# Altium schematic symbol library cygnus_schlib.SchLib: 2 symbols
Pins are listed as number, name and electrical type; pins without a type are passive.

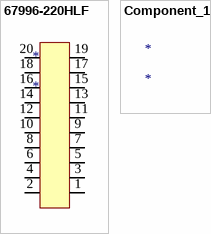
[diagram p0: symbols 67996-220HLF to Component_1]

## 67996-220HLF
designator *
Conn Unshrouded Header HDR 20 POS 2.54mm Solder ST Top Entry Thru-Hole BergStik® Bulk; Manufacturer: Amphenol ICC / FCI; Manufacturer Part Number: 67996-220HLF; Supplier: Digikey; Supplier Part Number: 609-3214-ND; RoHS: No; Category: Headers and Wire Housings; Stock: 2574; Pricing: 1=1.44, 10=1.05, 300=0.74357, 600=0.69387, 1200=0.64549, 5100=0.5587, 10200=0.52312 (USD); ComponentLink1URL: http://uk.rs-online.com/webdocs/1450/0900766b81450b5d.pdf?src-supplier=Rs; ComponentLink1Description: http://uk.rs-online.com/webdocs/1450/0900766b81450b5d.pdf?src-supplier=Rs; ComponentLink2URL: https://www.alliedelec.com/m/d/fee0c6eaaa6fc3b85f45416e67e4b39b.pdf?src-supplier=Allied+Electronics; ComponentLink2Description: https://www.alliedelec.com/m/d/fee0c6eaaa6fc3b85f45416e67e4b39b.pdf?src-supplier=Allied+Electronics; ComponentLink3URL: https://cdn.amphenol-icc.com/media/wysiwyg/files/drawing/67996.pdf?src-supplier=Digikey; ComponentLink3Description: https://cdn.amphenol-icc.com/media/wysiwyg/files/drawing/67996.pdf?src-supplier=Digikey; ComponentLink4URL: http://portal.fciconnect.com/Comergent/fci/drawing/67996.pdf?src-supplier=Avnet; ComponentLink4Description: http://portal.fciconnect.com/Comergent/fci/drawing/67996.pdf?src-supplier=Avnet; ComponentLink5URL: http://www.mouser.com/ds/2/154/bus-12-050-356030.pdf?src-supplier=Mouser; ComponentLink5Description: http://www.mouser.com/ds/2/154/bus-12-050-356030.pdf?src-supplier=Mouser; ComponentLink6URL: http://components.arrow.com/part/dataview/42734439S7329005N8314?src-supplier=Arrow+Electronics; ComponentLink6Description: http://components.arrow.com/part/dataview/42734439S7329005N8314?src-supplier=Arrow+Electronics; ComponentLink7URL: https://datasheet.octopart.com/67996-220HLF-Areva-datasheet-15888151.pdf?src-supplier=Element14; ComponentLink7Description: https://datasheet.octopart.com/67996-220HLF-Areva-datasheet-15888151.pdf?src-supplier=Element14; ComponentLink8URL: https://datasheet.octopart.com/67996-220HLF-Amphenol-Communications-Solutions-datasheet-36854132.pdf?src-supplier=Electro+Sonic; ComponentLink8Description: https://datasheet.octopart.com/67996-220HLF-Amphenol-Communications-Solutions-datasheet-36854132.pdf?src-supplier=Electro+Sonic
pins: 1, 2, 3, 4, 5, 6, 7, 8, 9, 10, 11, 12, 13, 14, 15, 16, 17, 18, 19, 20

## Component_1
designator *